# Altium integrated library WIFI.IntLib: 1 symbol
Pins are listed as number, name and electrical type; pins without a type are passive.

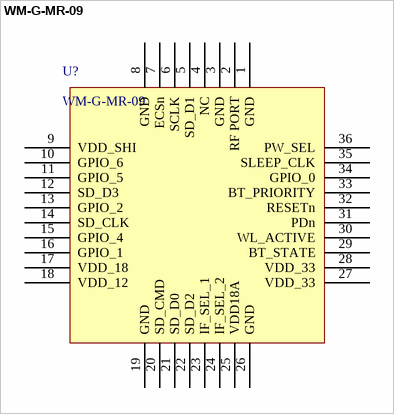
[diagram p0: symbol WM-G-MR-09]

## WM-G-MR-09
designator U?
footprint WM-G-MR-09
pins: 1 GND, 2 RF PORT, 3 GND, 4 NC, 5 SD_D1, 6 SCLK, 7 ECSn, 8 GND, 9 VDD_SHI, 10 GPIO_6, 11 GPIO_5, 12 SD_D3, 13 GPIO_2, 14 SD_CLK, 15 GPIO_4, 16 GPIO_1, 17 VDD_18, 18 VDD_12, 19 GND, 20 SD_CMD, 21 SD_D0, 22 SD_D2, 23 IF_SEL_1, 24 IF_SEL_2, 25 VDD18A, 26 GND, 27 VDD_33, 28 VDD_33, 29 BT_STATE, 30 WL_ACTIVE, 31 PDn, 32 RESETn, 33 BT_PRIORITY, 34 GPIO_0, 35 SLEEP_CLK, 36 PW_SEL